# Altium integrated library NX5032GA-8.000M-STD-CSU-1.IntLib: 1 symbol
Pins are listed as number, name and electrical type; pins without a type are passive.

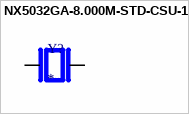
[diagram p0: symbol NX5032GA-8.000M-STD-CSU-1]

## NX5032GA-8.000M-STD-CSU-1
designator Y?
8 MHz ±50ppm Crystal 8pF 300 Ohms 2-SMD, No Lead; MF: NDK America,; MP: NX5032GA-8.000M-STD-CSU-1; SnapEDA_Link: https://www.snapeda.com/parts/NX5032GA-8.000M-STD-CSU-1/NDK+America%252C+Inc./view-part/?ref=snap; Package: SMD-2 NDK America, Inc.; Value: *; Check_prices: https://www.snapeda.com/parts/NX5032GA-8.000M-STD-CSU-1/NDK+America%252C+Inc./view-part/?ref=eda
footprint XTAL_NX5032GA-8.000M-STD-CSU-1
pins: 1, 2